# Altium footprint library TH Magnetics.PcbLib: 6 footprints
Each footprint in its own frame and in the unit in brackets; x right, y up, seen from the top. Pads: shape width x height; smd on the part's side, far side on the other; paste and mask are expansions set on the pad; w line width, h text height; cw(c..) or ccw(c..) is an arc to the next point about the centre after c.
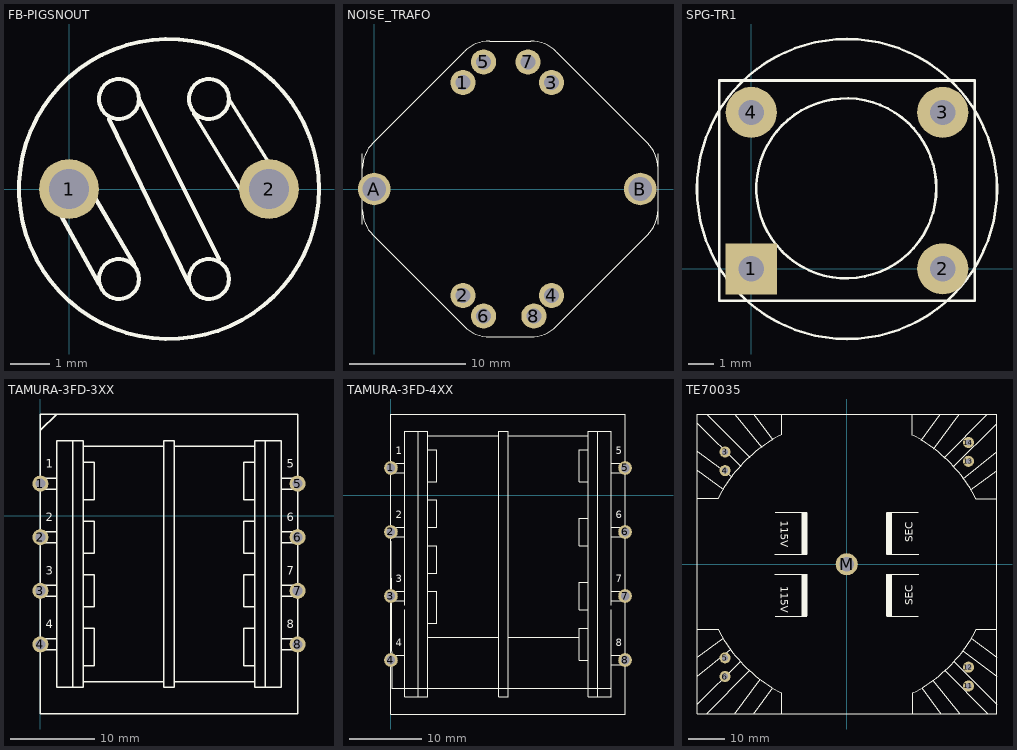
[diagram p0: the footprints below, top view; thin cyan lines are the x and y axes]

## FB-PIGSNOUT [mil]
pads (2):
  round 60 hole 40: 1(0,0) 2(200,0)
Top Overlay:
  circle w4: c100,0 r150
  circle w4: c50,90 r20
  circle w4: c140,90 r20
  circle w4: c50,-90 r20
  circle w4: c140,-90 r20
  lines w4: -20,-5 30,-95 ; 15,10 65,-75 ; 40,70 120,-95 ; 70,90 150,-70 ; 125,75 180,-15 ; 160,90 210,10

## NOISE_TRAFO [mil]
pads (10):
  round 85 hole 50: 1(300,360) 2(300,-360) 3(600,360) 4(600,-360) 5(370,430) 6(370,-430) 7(520,430) 8(540,-430)
  round 110 hole 80: A(0,0) B(900,0)
Top Overlay:
  lines w4: -40,-120 -40,70 cw(c80.71,70) -4.64,155.36 304.64,464.64 cw(c390,379.29) 390,500 460,500 530,500 cw(c530,379.29) 615.36,464.64 924.64,155.36 cw(c839.29,70) 960,70 960,-120 ; -40,120 -40,-70 ccw(c80.71,-70) -4.64,-155.36 304.64,-464.64 ccw(c390,-379.29) 390,-500 460,-500 530,-500 ccw(c530,-379.29) 615.36,-464.64 924.64,-155.36 ccw(c839.29,-70) 960,-70 960,120

## SPG-TR1 [mil]
pads (4):
  rect 80x80 hole 39.37: 1(0,0)
  round 80 hole 39.37: 2(300,0) 3(300,245) 4(0,245)
Top Overlay:
  circle w4: c149,126 r141
  circle w4: c150,125 r235
  lines w4: -50,31 -50,295 350,295 350,32 ; -50,32.5 -50,-50 350,-50 350,37.5

## TAMURA-3FD-3XX [mm]
pads (8):
  round 1.905 hole 1.2 unplated mask+0.051: 1(0,3.81) 2(0,-2.54) 3(0,-8.89) 4(0,-15.24) 5(30.48,3.81) 6(30.48,-2.54) 7(30.48,-8.89) 8(30.48,-15.24)
Top Overlay:
  lines w0.152: 0,-15.875 1.905,-15.875 ; 0,-14.605 1.905,-14.605 1.905,-15.875 ; 0,-9.525 1.905,-9.525 ; 0,-8.255 1.905,-8.255 ; 0,-3.175 1.905,-3.175 ; 0,-1.905 1.905,-1.905 ; 0,3.175 1.905,3.175 ; 0,4.445 1.905,4.445 ; 0,10.16 1.905,12.065 ; 5.08,-19.685 14.605,-19.685 ; 5.08,-17.78 6.35,-17.78 6.35,-13.335 5.08,-13.335 ; 5.08,-10.795 6.35,-10.795 6.35,-6.985 5.08,-6.985 ; 5.08,-4.445 6.35,-4.445 6.35,-0.635 5.08,-0.635 ; 5.08,1.905 6.35,1.905 6.35,6.35 5.08,6.35 ; 5.08,8.255 14.605,8.255 ; 15.875,-19.685 25.4,-19.685 ; 15.875,8.255 25.4,8.255 ; 25.4,-17.78 24.13,-17.78 24.13,-13.335 25.4,-13.335 ; 25.4,-10.795 24.13,-10.795 24.13,-6.985 25.4,-6.985 ; 25.4,-4.445 24.13,-4.445 24.13,-0.635 25.4,-0.635 ; 25.4,1.905 24.13,1.905 24.13,6.35 25.4,6.35 ; 28.575,-9.525 30.48,-9.525 ; 28.575,-8.255 30.48,-8.255 ; 28.575,-3.175 30.48,-3.175 ; 28.575,-1.905 30.48,-1.905 ; 30.48,-15.875 28.575,-15.875 ; 30.48,-14.605 28.575,-14.605 28.575,-15.875 ; 30.48,3.175 28.575,3.175 ; 30.48,4.445 28.575,4.445 ; 0,-6.35 0,-23.495 30.48,-23.495 30.48,-6.35 ; 0,-6.35 0,-5.08 ; 0,-6.35 0,-5.08 ; 0,-5.08 0,12.065 30.48,12.065 30.48,-5.08 ; 1.905,-15.875 1.905,-15.24 1.905,3.175 ; 1.905,-15.875 1.905,-20.32 3.81,-20.32 ; 1.905,3.175 1.905,4.445 ; 1.905,4.445 1.905,8.89 3.81,8.89 ; 3.81,-20.32 4.445,-20.32 5.08,-20.32 5.08,-12.7 5.08,1.27 5.08,8.89 4.445,8.89 3.81,8.89 ; 3.81,-20.32 3.81,-12.7 3.81,1.27 3.81,8.89 ; 26.67,-20.32 28.575,-20.32 28.575,-15.875 ; 26.67,-20.32 26.67,-12.7 26.67,1.27 26.67,8.89 ; 26.67,-20.32 26.035,-20.32 25.4,-20.32 25.4,-12.7 25.4,1.27 25.4,8.89 26.035,8.89 26.67,8.89 ; 26.67,8.89 28.575,8.89 28.575,4.445 ; 28.575,-15.875 28.575,-15.24 28.575,3.175 ; 28.575,3.175 28.575,4.445 ; 30.48,-6.35 30.48,-5.08 ; 30.48,-6.35 30.48,-5.08 ; 14.605,-20.32 14.605,8.89 15.875,8.89 15.875,-20.32 14.605,-20.32
  text "1" at 0.635,5.715 h1.02
  text "2" at 0.635,-0.635 h1.02
  text "3" at 0.635,-6.985 h1.02
  text "4" at 0.635,-13.335 h1.02
  text "5" at 29.21,5.715 h1.02
  text "6" at 29.21,-0.635 h1.02
  text "7" at 29.21,-6.985 h1.02
  text "8" at 29.21,-13.335 h1.02
3D body: height 4.34, standoff -0.56, extent 30.226,-15.748 30.734,-14.732
3D body: height 5.08, standoff 4.34, extent 28.321,-15.748 30.734,-14.732
3D body: height 4.34, standoff -0.56, extent 30.226,-9.398 30.734,-8.382
3D body: height 5.08, standoff 4.34, extent 28.321,-9.398 30.734,-8.382
3D body: height 4.34, standoff -0.56, extent 30.226,-3.048 30.734,-2.032
3D body: height 5.08, standoff 4.34, extent 28.321,-3.048 30.734,-2.032
3D body: height 4.34, standoff -0.56, extent 30.226,3.302 30.734,4.318
3D body: height 5.08, standoff 4.34, extent 28.321,3.302 30.734,4.318
3D body: height 4.34, standoff -0.56, extent -0.254,3.302 0.254,4.318
3D body: height 5.08, standoff 4.34, extent -0.254,3.302 2.159,4.318
3D body: height 4.34, standoff -0.56, extent -0.254,-3.048 0.254,-2.032
3D body: height 5.08, standoff 4.34, extent -0.254,-3.048 2.159,-2.032
3D body: height 4.34, standoff -0.56, extent -0.254,-15.748 0.254,-14.732
3D body: height 5.08, standoff 4.34, extent -0.254,-15.748 2.159,-14.732
3D body: height 5.08, standoff 4.34, extent -0.254,-9.398 2.159,-8.382
3D body: height 4.34, standoff -0.56, extent -0.254,-9.398 0.254,-8.382
3D body: height 32.1, standoff 0, extent 14.605,-20.32 15.875,8.89
3D body: height 32.1, standoff 0, extent 25.4,-20.32 28.575,8.89
3D body: height 32.1, standoff 0, extent 0,-23.495 30.48,12.065
3D body: height 32.1, standoff 0, extent 1.905,-20.32 5.08,8.89
3D body: height 32.1, standoff 0, extent 5.143,-19.685 14.605,8.255
3D body: height 32.1, standoff 0, extent 15.875,-19.685 25.4,8.255

## TAMURA-3FD-4XX [mm]
pads (8):
  round 1.905 hole 1.2 unplated mask+0.051: 1(0,3.81) 2(0,-5.08) 3(0,-13.97) 4(0,-22.86) 5(32.512,3.81) 6(32.512,-5.08) 7(32.512,-13.97) 8(32.512,-22.86)
Top Overlay:
  lines w0.152: 0,-22.225 1.905,-22.225 1.905,-23.495 1.905,-22.86 ; 0,-14.605 1.905,-14.605 ; 0,-13.335 1.905,-13.335 ; 0,-5.715 1.905,-5.715 ; 0,-4.445 1.905,-4.445 ; 0,3.175 1.905,3.175 ; 0,4.445 1.905,4.445 ; 1.905,-15.875 1.905,-27.94 3.81,-27.94 ; 1.905,-15.24 1.905,3.175 ; 5.08,-19.685 14.986,-19.685 ; 5.08,-17.78 6.35,-17.78 6.35,-13.335 5.08,-13.335 ; 5.08,-10.795 6.35,-10.795 6.35,-6.985 5.08,-6.985 ; 5.08,-4.445 6.35,-4.445 6.35,-0.635 5.08,-0.635 ; 5.08,1.905 6.35,1.905 6.35,6.35 5.08,6.35 ; 5.08,8.255 14.859,8.255 ; 16.256,-19.685 26.162,-19.685 ; 16.256,8.255 27.432,8.255 ; 27.432,-22.86 26.162,-22.86 26.162,-18.415 27.432,-18.415 ; 27.432,-15.875 26.162,-15.875 26.162,-12.065 27.432,-12.065 ; 27.432,-6.985 26.162,-6.985 26.162,-3.175 27.432,-3.175 ; 27.432,1.905 26.162,1.905 26.162,6.35 27.432,6.35 ; 28.067,-27.94 28.702,-27.94 ; 29.654,-27.94 27.432,-27.94 27.432,-20.32 27.432,-12.7 27.432,1.27 27.432,8.89 28.067,8.89 28.702,8.89 ; 30.607,-26.797 0.127,-26.797 0,-6.35 ; 30.607,-22.86 30.607,-23.495 ; 30.607,-15.875 30.607,-27.94 28.702,-27.94 ; 30.607,-15.24 30.607,3.175 ; 30.607,-14.605 32.512,-14.605 ; 30.607,-13.335 32.512,-13.335 ; 30.607,-5.715 32.512,-5.715 ; 30.607,-4.445 32.512,-4.445 ; 32.512,-22.225 30.607,-22.225 30.607,-23.495 ; 32.512,-6.35 32.512,-23.495 30.607,-23.495 ; 32.512,3.175 30.607,3.175 ; 32.512,4.445 30.607,4.445 ; 0,-6.35 0,-5.08 0,-6.35 ; 1.905,3.175 1.905,4.445 ; 1.905,4.445 1.905,8.89 3.81,8.89 ; 3.81,-27.94 3.81,-12.7 3.81,1.27 3.81,8.89 ; 3.81,-27.94 5.08,-27.94 5.08,-12.7 5.08,1.27 5.08,8.89 4.445,8.89 3.81,8.89 ; 28.702,-27.94 28.702,-12.7 28.702,1.27 28.702,8.89 ; 28.702,8.89 30.607,8.89 30.607,4.445 ; 30.607,3.175 30.607,4.445 ; 0,-30.353 32.512,-30.353 32.512,3.81 32.512,11.303 2.54,11.303 0,11.303 0,-9.525 0,-30.353 ; 14.986,-27.94 16.256,-27.94 16.256,8.89 14.986,8.89 14.986,-27.94 ; 32.512,-11.43 32.512,-10.16 32.512,-11.43
  text "8" at 31.242,-20.955 h1.02
  text "7" at 31.242,-12.065 h1.02
  text "6" at 31.242,-3.175 h1.02
  text "5" at 31.242,5.715 h1.02
  text "4" at 0.635,-20.955 h1.02
  text "3" at 0.635,-12.065 h1.02
  text "2" at 0.635,-3.175 h1.02
  text "1" at 0.635,5.715 h1.02
3D body: height 32.1, standoff 0, extent 5.048,-26.797 27.432,8.255
3D body: height 32.1, standoff 0, extent 1.905,-27.94 5.08,8.89
3D body: height 32.1, standoff 0, extent 0,-30.353 32.512,11.303
3D body: height 32.1, standoff 0, extent 28.702,-27.94 30.607,8.89
3D body: height 4.34, standoff -0.56, extent -0.254,-14.478 0.254,-13.462
3D body: height 5.08, standoff 4.34, extent -0.254,-14.478 2.159,-13.462
3D body: height 5.08, standoff 4.34, extent -0.254,-23.368 2.159,-22.352
3D body: height 4.34, standoff -0.56, extent -0.254,-23.368 0.254,-22.352
3D body: height 5.08, standoff 4.34, extent -0.317,-5.588 2.096,-4.572
3D body: height 4.34, standoff -0.56, extent -0.317,-5.588 0.191,-4.572
3D body: height 5.08, standoff 4.34, extent -0.254,3.302 2.159,4.318
3D body: height 4.34, standoff -0.56, extent -0.254,3.302 0.254,4.318
3D body: height 5.08, standoff 4.34, extent 30.353,3.302 32.766,4.318
3D body: height 4.34, standoff -0.56, extent 32.258,3.302 32.766,4.318
3D body: height 5.08, standoff 4.34, extent 30.353,-5.588 32.766,-4.572
3D body: height 4.34, standoff -0.56, extent 32.258,-5.588 32.766,-4.572
3D body: height 5.08, standoff 4.34, extent 30.353,-14.478 32.766,-13.462
3D body: height 4.34, standoff -0.56, extent 32.258,-14.478 32.766,-13.462
3D body: height 5.08, standoff 4.34, extent 30.353,-23.368 32.766,-22.352
3D body: height 4.34, standoff -0.56, extent 32.258,-23.368 32.766,-22.352

## TE70035 [mm]
pads (9):
  round 3 hole 1.6: 3(-33.02,30.48) 4(-33.02,25.4) 5(-33.02,-25.4) 6(-33.02,-30.48) 11(33.02,-33.02) 12(33.02,-27.94) 13(33.02,27.94) 14(33.02,33.02)
  round 6 hole 4: M(0,0)
Top Overlay:
  region: -10.668,-2.667 -12.319,-2.667 -12.319,-14.097 -10.668,-14.097
  region: -10.668,14.097 -12.319,14.097 -12.319,2.667 -10.668,2.667
  rectangle: 10.668,-14.097 12.319,-2.667
  rectangle: 10.668,2.667 12.319,14.097
  lines w0.127: -40.513,-37.973 -28.829,-26.289 ; -40.513,-25.273 -33.528,-20.066 ; -40.513,-17.653 -34.925,-17.653 ccw(c0.127,0.127) -17.653,-34.925 -17.653,-40.513 ; -40.513,17.907 -34.925,17.907 cw(c0.127,0.127) -17.653,35.179 -17.653,40.767 ; -40.513,25.527 -33.528,20.32 ; -40.513,30.607 -31.242,23.749 ; -40.513,33.147 -40.513,40.767 -32.893,40.767 -30.353,40.767 -23.114,31.75 ; -40.513,38.227 -28.829,26.543 ; -37.973,-40.513 -26.289,-28.829 ; -37.973,40.767 -26.289,29.083 ; -32.893,-40.513 -40.513,-40.513 -40.513,-32.893 -40.513,-30.353 -31.496,-23.114 ; -30.353,-40.513 -23.495,-31.242 ; -25.273,-40.513 -20.066,-33.528 ; -25.273,40.767 -20.066,33.782 ; 17.78,40.64 17.78,35.052 cw(c0,0) 35.052,17.78 40.64,17.78 ; 17.907,-40.513 17.907,-34.925 ccw(c0.127,0.127) 35.179,-17.653 40.767,-17.653 ; 20.193,33.655 25.4,40.64 ; 20.32,-33.528 25.527,-40.513 ; 23.368,-31.496 30.607,-40.513 33.147,-40.513 40.767,-40.513 40.767,-32.893 ; 23.622,31.369 30.48,40.64 ; 26.416,28.956 38.1,40.64 ; 26.543,-28.829 38.227,-40.513 ; 28.956,26.416 40.64,38.1 ; 29.083,-26.289 40.767,-37.973 ; 31.496,-23.495 40.767,-30.353 ; 31.623,23.241 40.64,30.48 40.64,33.02 ; 33.655,20.193 40.64,25.4 ; 33.782,-20.066 40.767,-25.273 ; 40.64,33.02 40.64,40.64 33.02,40.64 -40.64,40.64 -40.64,38.1 -40.64,-40.64 -33.02,-40.64 40.64,-40.64 40.64,-33.02 40.64,33.02
  lines w0.152: -19.558,-2.667 -10.795,-2.667 ; -19.558,2.667 -10.795,2.667 ; -19.431,-14.097 -10.795,-14.097 ; -19.431,14.097 -10.795,14.097 ; 10.795,-14.097 19.431,-14.097 ; 10.795,-2.667 19.558,-2.667 ; 10.795,2.667 19.558,2.667 ; 10.795,14.097 19.431,14.097
  text "115V" at -17.907,-5.969 h2.03
  text "115V" at -17.907,11.811 h2.03
  text "SEC" at 17.907,-11.176 h2.03
  text "SEC" at 17.907,5.969 h2.03